# Altium footprint library st-microelectronics.PCBLIB: 1 footprints
Each footprint in its own frame and in the unit in brackets; x right, y up, seen from the top. Pads: shape width x height; smd on the part's side, far side on the other; paste and mask are expansions set on the pad; w line width, h text height; cw(c..) or ccw(c..) is an arc to the next point about the centre after c.
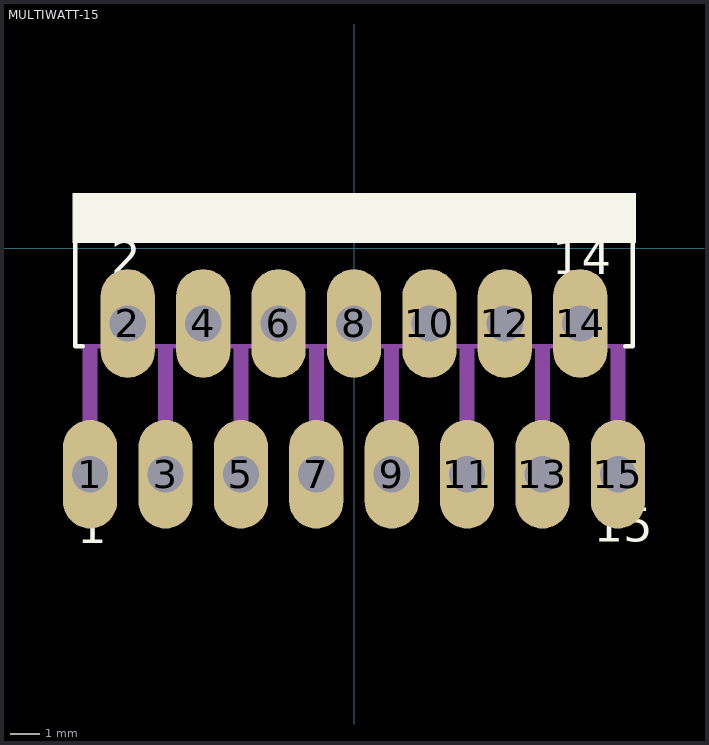
[diagram p0: the footprint, top view; thin cyan lines are the x and y axes]

## MULTIWATT-15 [mil]
pads (15):
  oval 72x144 hole 48: 1(-350,-300) 2(-300,-100) 3(-250,-300) 4(-200,-100) 5(-150,-300) 6(-100,-100) 7(-50,-300) 8(0,-100) 9(50,-300) 10(100,-100) 11(150,-300) 12(200,-100) 13(250,-300) 14(300,-100) 15(350,-300)
Top Overlay:
  rectangle: -373.03,7 374,73
  lines w6: -370,10 -370,-130 -360,-130 ; 360,-130 370,-130 370,10
  text "1" at -367.22,-407.02 h77.5
  text "15" at 318,-404.69 h77.5
  text "2" at -321.91,-50 h77.5
  text "14" at 263,-50 h77.5
Mechanical 16:
  rectangle: -360,-240 -340,-130
  rectangle: -260,-240 -240,-130
  rectangle: -160,-240 -140,-130
  rectangle: -60,-240 -40,-130
  rectangle: 40,-240 60,-130
  rectangle: 140,-240 160,-130
  rectangle: 240,-240 260,-130
  rectangle: 340,-240 360,-130
  lines w6: -360,-130 360,-130